# EAGLE library part TMP121 (library miller)
TMP121 digital temperature sensor Texas Instruments SPI interface
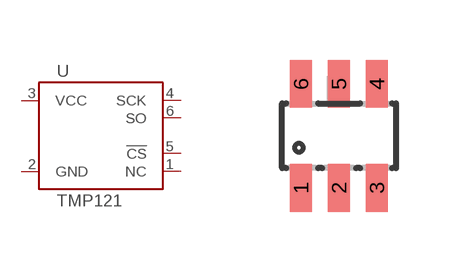
[diagram p14: symbol with the pads of SOT23-6; footprint SOT23-6]

Designator prefix -

## TMP121  [SOT23-6]
1  NC
2  GND  pwr
3  VCC  pwr
4  SCK
5  !CS
6  SO

## Footprint SOT23-6 (pad centres in mm)
smd 0.55 x 1.2: 1 -0.95,-1.3; 2 0,-1.3; 3 0.95,-1.3; 4 0.95,1.3; 5 0,1.3; 6 -0.95,1.3